# Altium schematic symbol library Resistor_0603.SchLib: 235 symbols (part 2 of 4)
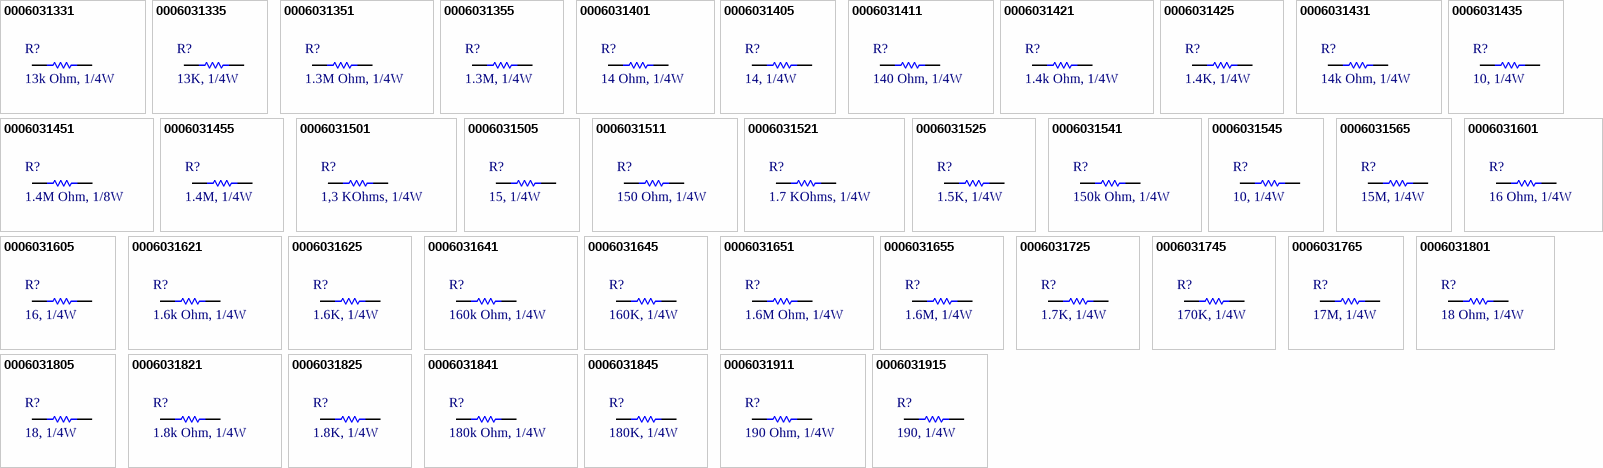
[diagram p6: symbols 0006031331 to 0006031915]

## 0006031641
designator R?, comment 160k Ohm, 1/4W
RES, 160k Ohm, size 0603, 1%; Manufacture  Name: OEM; Resistance Tolerant: +/-1%; Supply 1 Name: Mouser; Supply 1 SN: 667-ERJ-UP3F1603V; Supply 2 Name: Digi-Key; Supply 2 SN: 10-ERJ-UP3F1603VTR-ND 10-ERJ-UP3F1603VCT-ND 10-ERJ-UP3F1603VDKR-ND; Supply 3 Name: Thegioiic; Resistance: 160k; Size: 0603; Rated Power: 1/4W; Mounting Technology: SMT; Supply 1 URL: https://www.mouser.vn/ProductDetail/Panasonic/ERJ-UP3F1603V?qs=sGAEpiMZZMvdGkrng054twq3eZrCFN89v2LbROEWqwWohPOVA0N52A%3D%3D; Supply 2 URL: N/A; Supply 3 SN: N/A; Supply 3 URL: N/A; Datasheet: https://api.pim.na.industrial.panasonic.com/file_stream/main/fileversion/4484; Manufacture  SN: OEM
footprint resistor_0603
pins: 1, 2

## 0006031645
designator R?, comment 160K, 1/4W
RES, 160K Ohm, size 0603, 5%; Manufacture  Name: Panasonic; Manufacture  SN: ERJ-PA3J164V; Supply 1 Name: Mouser; Supply 1 SN: 667-ERJ-PA3J164V; Supply 2 Name: Digi-Key; Supply 2 SN: P160KBZTR-ND - Tape & Reel (TR); Supply 3 Name: Thegioiic; Resistance Tolerant: +/-5%; Size: 0603; Mounting Technology: SMT; Rated Power: 1/4 W; Datasheet: https://www.mouser.vn/datasheet/2/315/Panasonic_Resistors_Thick_Film_Anti_Sulf_Anti_Surg-1825099.pdf; Resistance: 160K; Supply 1 URL: https://www.mouser.vn/ProductDetail/Panasonic/ERJ-PA3J164V?qs=BzJM0faLVqVAGHfBHFIBng%3D%3D; Supply 2 URL: https://www.digikey.com/en/products/detail/panasonic-electronic-components/ERJ-PA3J164V/5035998?s=N4IgTCBcDaIGxwOwFoCiAlAUsgCgQQGZMBGOAFgDUQBdAXyA; Supply 3 SN: N/A; Supply 3 URL: N/A
footprint resistor_0603
pins: 1, 2

## 0006031651
designator R?, comment 1.6M Ohm, 1/4W
RES, 1.6M Ohm, size 0603, 1%; Manufacture  Name: OEM; Resistance Tolerant: +/-1%; Supply 1 Name: Mouser; Supply 1 SN: 755-ESR03EZPF1604; Supply 2 Name: Digi-Key; Supply 2 SN: ESR03EZPF1604-ND; Supply 3 Name: Thegioiic; Resistance: 1.6M; Size: 0603; Rated Power: 1/4W; Mounting Technology: SMT; Supply 1 URL: https://www.mouser.vn/ProductDetail/ROHM-Semiconductor/ESR03EZPF1604?qs=sGAEpiMZZMvdGkrng054tywGjayRHxH2xp2ZonbCXxj0kHKYgwujog%3D%3D; Supply 2 URL: https://www.digikey.com/en/products/detail/rohm-semiconductor/ESR03EZPF1604/4007171?s=N4IgjCBcoExaBjKAzAhgGwM4FMA0IB7KAbXADYBWAFgGYQBdfABwBcoQBlFgJwEsA7AOYgAvvjrQQSSGix5CJcGBoRGIVuy58ho-GBgBOCJOmyc%2BIpFI0DMKhQbM2kTjwHCxIGAAYAHA5MUDHMFK3AAOjIAAgBZAHkACwBbTEd1ZxAAVX5eFjjkGOxUTABXbmxRTzgw8sxeTBYCbgYRIA; Supply 3 SN: N/A; Supply 3 URL: N/A; Datasheet: https://fscdn.rohm.com/en/products/databook/datasheet/passive/resistor/chip_resistor/esr-e.pdf; Manufacture  SN: OEM
footprint resistor_0603
pins: 1, 2

## 0006031655
designator R?, comment 1.6M, 1/4W
RES, 1.6M Ohm, size 0603, 5%; Manufacture  Name: Panasonic; Manufacture  SN: ESR03EZPJ165; Supply 1 Name: Mouser; Supply 1 SN: 755-ESR03EZPJ165; Supply 2 Name: Digi-Key; Supply 2 SN: RHM1.6MDTR-ND - Tape & Reel (TR); Supply 3 Name: Thegioiic; Resistance Tolerant: +/-5%; Size: 0603; Mounting Technology: SMT; Rated Power: 1/4 W; Datasheet: https://www.mouser.vn/datasheet/2/348/ROHM_S_A0011075102_1-2563252.pdf; Resistance: 1.6M; Supply 1 URL: https://www.mouser.vn/ProductDetail/ROHM-Semiconductor/ESR03EZPJ165?qs=493kPxzlxfJE2ulu9ea6EQ%3D%3D; Supply 2 URL: https://www.digikey.com/en/products/detail/rohm-semiconductor/ESR03EZPJ165/4051202?s=N4IgTCBcDaIOwFYEFoCiBlASgBgMyoC0AFAKQEYA2BEAXQF8g; Supply 3 SN: N/A; Supply 3 URL: N/A
footprint resistor_0603
pins: 1, 2

## 0006031725
designator R?, comment 1.7K, 1/4W
RES, 1.7K Ohm, size 0603, 5%; Manufacture  Name: OEM; Supply 1 Name: Mouser; Supply 2 Name: Digi-Key; Supply 3 Name: Thegioiic; Resistance Tolerant: +/-5%; Size: 0603; Mounting Technology: SMT; Rated Power: 1/4 W; Datasheet: N/A; Resistance: 1.7K; Supply 1 SN: N/A; Supply 1 URL: N/A; Supply 2 SN: N/A; Supply 2 URL: N/A; Supply 3 SN: N/A; Supply 3 URL: N/A; Manufacture  SN: OEM
footprint resistor_0603
pins: 1, 2

## 0006031745
designator R?, comment 170K, 1/4W
RES, 170K Ohm, size 0603, 5%; Manufacture  Name: OEM; Supply 1 Name: Mouser; Supply 2 Name: Digi-Key; Supply 3 Name: Thegioiic; Resistance Tolerant: +/-5%; Size: 0603; Mounting Technology: SMT; Rated Power: 1/4 W; Datasheet: N/A; Resistance: 170K; Supply 1 SN: N/A; Supply 1 URL: N/A; Supply 2 SN: N/A; Supply 2 URL: N/A; Supply 3 SN: N/A; Supply 3 URL: N/A; Manufacture  SN: OEM
footprint resistor_0603
pins: 1, 2

## 0006031765
designator R?, comment 17M, 1/4W
RES, 17M Ohm, size 0603, 5%; Manufacture  Name: OEM; Supply 1 Name: Mouser; Supply 2 Name: Digi-Key; Supply 3 Name: Thegioiic; Resistance Tolerant: +/-5%; Size: 0603; Mounting Technology: SMT; Rated Power: 1/4 W; Datasheet: N/A; Resistance: 17M; Supply 1 SN: N/A; Supply 1 URL: N/A; Supply 2 SN: N/A; Supply 2 URL: N/A; Supply 3 SN: N/A; Supply 3 URL: N/A; Manufacture  SN: OEM
footprint resistor_0603
pins: 1, 2

## 0006031801
designator R?, comment 18 Ohm, 1/4W
RES, 18 Ohm, size 0603, 1%; Manufacture  Name: OEM; Resistance: 18; Resistance Tolerant: +/-1%; Supply 1 Name: Mouser; Supply 1 SN: 667-ERJ-UP3F18R0V; Supply 2 Name: Digi-Key; Supply 2 SN: 10-ERJ-UP3F18R0VTR-ND 10-ERJ-UP3F18R0VCT-ND 10-ERJ-UP3F18R0VDKR-ND; Supply 3 Name: Thegioiic; Size: 0603; Rated Power: 1/4W; Mounting Technology: SMT; Supply 1 URL: https://www.mouser.vn/ProductDetail/Panasonic/ERJ-UP3F18R0V?qs=sGAEpiMZZMvdGkrng054twq3eZrCFN89n5s8jvdP%252BJXPaFNsA5Qf3A%3D%3D; Supply 2 URL: N/A; Supply 3 SN: N/A; Supply 3 URL: N/A; Datasheet: https://api.pim.na.industrial.panasonic.com/file_stream/main/fileversion/4484; Manufacture  SN: OEM
footprint resistor_0603
pins: 1, 2

## 0006031805
designator R?, comment 18, 1/4W
RES, 18 Ohm, size 0603, 5%; Manufacture  Name: Panasonic; Manufacture  SN: ERJ-PA3J180V; Resistance: 18; Supply 1 Name: Mouser; Supply 1 SN: 667-ERJ-PA3J180V; Supply 2 Name: Digi-Key; Supply 2 SN: P18.00BZTR-ND - Tape & Reel (TR); Supply 3 Name: Thegioiic; Resistance Tolerant: +/-5%; Size: 0603; Mounting Technology: SMT; Rated Power: 1/4 W; Datasheet: https://www.mouser.vn/datasheet/2/315/AOA0000C331-1141874.pdf; Supply 1 URL: https://www.mouser.vn/ProductDetail/Panasonic/ERJ-PA3J180V?qs=BzJM0faLVqWoePtbyfIonA%3D%3D; Supply 2 URL: https://www.digikey.com/en/products/detail/panasonic-electronic-components/ERJ-PA3J180V/5035999?s=N4IgTCBcDaIGxwOwFoCiAlAUsgCgQQGZMBGADgAYA1EAXQF8g; Supply 3 SN: N/A; Supply 3 URL: https://www.thegioiic.com/dien-tro-18-ohm-0603-5-
footprint resistor_0603
pins: 1, 2

## 0006031821
designator R?, comment 1.8k Ohm, 1/4W
RES, 1.8k Ohm, size 0603, 1%; Manufacture  Name: OEM; Resistance Tolerant: +/-1%; Supply 1 Name: Mouser; Supply 1 SN: 667-ERJ-UP3F1801V; Supply 2 Name: Digi-Key; Supply 2 SN: 10-ERJ-UP3F1801VTR-ND 10-ERJ-UP3F1801VCT-ND 10-ERJ-UP3F1801VDKR-ND; Supply 3 Name: Thegioiic; Resistance: 1.8k; Size: 0603; Rated Power: 1/4W; Mounting Technology: SMT; Supply 1 URL: https://www.mouser.vn/ProductDetail/Panasonic/ERJ-UP3F1801V?qs=sGAEpiMZZMvdGkrng054twq3eZrCFN89ywFV2wwBBiTTQ%252B52RjE6XA%3D%3D; Supply 2 URL: N/A; Supply 3 SN: N/A; Supply 3 URL: N/A; Datasheet: https://api.pim.na.industrial.panasonic.com/file_stream/main/fileversion/4484; Manufacture  SN: OEM
footprint resistor_0603
pins: 1, 2

## 0006031825
designator R?, comment 1.8K, 1/4W
RES, 1.8K Ohm, size 0603, 5%; Manufacture  Name: Panasonic; Manufacture  SN: ERJ-UP3J182V; Supply 1 Name: Mouser; Supply 1 SN: 667-ERJ-UP3J182V; Supply 2 Name: Digi-Key; Supply 2 SN: 10-ERJ-UP3J182VTR-ND - Tape & Reel (TR); Supply 3 Name: Thegioiic; Resistance Tolerant: +/-5%; Size: 0603; Mounting Technology: SMT; Rated Power: 1/4 W; Datasheet: https://www.mouser.vn/datasheet/2/315/Panasonic_Resistors_Thick_Film_Anti_Sulf_Anti_Surg-1825099.pdf; Resistance: 1.8K; Supply 1 URL: https://www.mouser.vn/ProductDetail/Panasonic/ERJ-UP3J182V?qs=GedFDFLaBXEdz0KjUYQ0%2FQ%3D%3D; Supply 2 URL: https://www.digikey.com/en/products/detail/panasonic-electronic-components/ERJ-UP3J182V/12092931?s=N4IgTCBcDaIGxwOwFoCiAlAUsgqgBQGZMBGADjADUQBdAXyA; Supply 3 SN: N/A; Supply 3 URL: https://www.thegioiic.com/product/dien-tro-dan-smd?prid=291,6628,4682
footprint resistor_0603
pins: 1, 2

## 0006031841
designator R?, comment 180k Ohm, 1/4W
RES, 180k Ohm, size 0603, 1%; Manufacture  Name: OEM; Resistance Tolerant: +/-1%; Supply 1 Name: Mouser; Supply 1 SN: 667-ERJ-UP3F1803V; Supply 2 Name: Digi-Key; Supply 2 SN: 10-ERJ-UP3F1803VTR-ND 10-ERJ-UP3F1803VCT-ND 10-ERJ-UP3F1803VDKR-ND; Supply 3 Name: Thegioiic; Resistance: 180k; Size: 0603; Rated Power: 1/4W; Mounting Technology: SMT; Supply 1 URL: https://www.mouser.vn/ProductDetail/Panasonic/ERJ-UP3F1803V?qs=sGAEpiMZZMvdGkrng054twq3eZrCFN8918LomXN2pgejfcQal9aCUw%3D%3D; Supply 2 URL: N/A; Supply 3 SN: N/A; Supply 3 URL: N/A; Datasheet: https://api.pim.na.industrial.panasonic.com/file_stream/main/fileversion/4484; Manufacture  SN: OEM
footprint resistor_0603
pins: 1, 2

## 0006031845
designator R?, comment 180K, 1/4W
RES, 180K Ohm, size 0603, 5%; Manufacture  Name: Panasonic; Manufacture  SN: ERJ-PA3J184V; Supply 1 Name: Mouser; Supply 1 SN: 667-ERJ-PA3J184V; Supply 2 Name: Digi-Key; Supply 2 SN: P180KBZTR-ND - Tape & Reel (TR); Supply 3 Name: Thegioiic; Resistance Tolerant: +/-5%; Size: 0603; Mounting Technology: SMT; Rated Power: 1/4 W; Datasheet: https://www.mouser.vn/datasheet/2/315/AOA0000C331-1141874.pdf; Resistance: 180K; Supply 1 URL: https://www.mouser.vn/ProductDetail/Panasonic/ERJ-PA3J184V?qs=BzJM0faLVqV02%252BkMYM0K6A%3D%3D; Supply 2 URL: https://www.digikey.com/en/products/detail/panasonic-electronic-components/ERJ-PA3J184V/5036003?s=N4IgTCBcDaIGxwOwFoCiAlAUsgCgQQGZMBGADgBYA1EAXQF8g; Supply 3 SN: N/A; Supply 3 URL: https://www.thegioiic.com/dien-tro-180-kohm-0603-5
footprint resistor_0603
pins: 1, 2

## 0006031911
designator R?, comment 190 Ohm, 1/4W
RES, 190 Ohm, size 0603, 1%; Manufacture  Name: OEM; Resistance: 190; Resistance Tolerant: +/-1%; Supply 1 Name: Mouser; Supply 1 SN: 667-ERJ-PA3F1910V; Supply 2 Name: Digi-Key; Supply 2 SN: 10-ERJ-UP3F1910VTR-ND; Supply 3 Name: Thegioiic; Size: 0603; Rated Power: 1/4W; Mounting Technology: SMT; Supply 1 URL: https://www.mouser.vn/ProductDetail/Panasonic/ERJ-PA3F1910V?qs=sGAEpiMZZMvdGkrng054t6%2FAfIpq60YD3kw99gNbcjtA%252BMXGoWBkmw%3D%3D; Supply 2 URL: N/A; Supply 3 SN: N/A; Supply 3 URL: N/A; Datasheet: https://api.pim.na.industrial.panasonic.com/file_stream/main/fileversion/4484; Manufacture  SN: OEM
footprint resistor_0603
pins: 1, 2

## 0006031915
designator R?, comment 190, 1/4W
RES, 190 Ohm, size 0603, 5%; Manufacture  Name: OEM; Resistance: 190; Supply 1 Name: Mouser; Supply 2 Name: Digi-Key; Supply 3 Name: Thegioiic; Resistance Tolerant: +/-5%; Size: 0603; Mounting Technology: SMT; Rated Power: 1/4 W; Datasheet: N/A; Supply 1 SN: N/A; Supply 1 URL: N/A; Supply 2 SN: N/A; Supply 2 URL: N/A; Supply 3 SN: N/A; Supply 3 URL: N/A; Manufacture  SN: OEM
footprint resistor_0603
pins: 1, 2

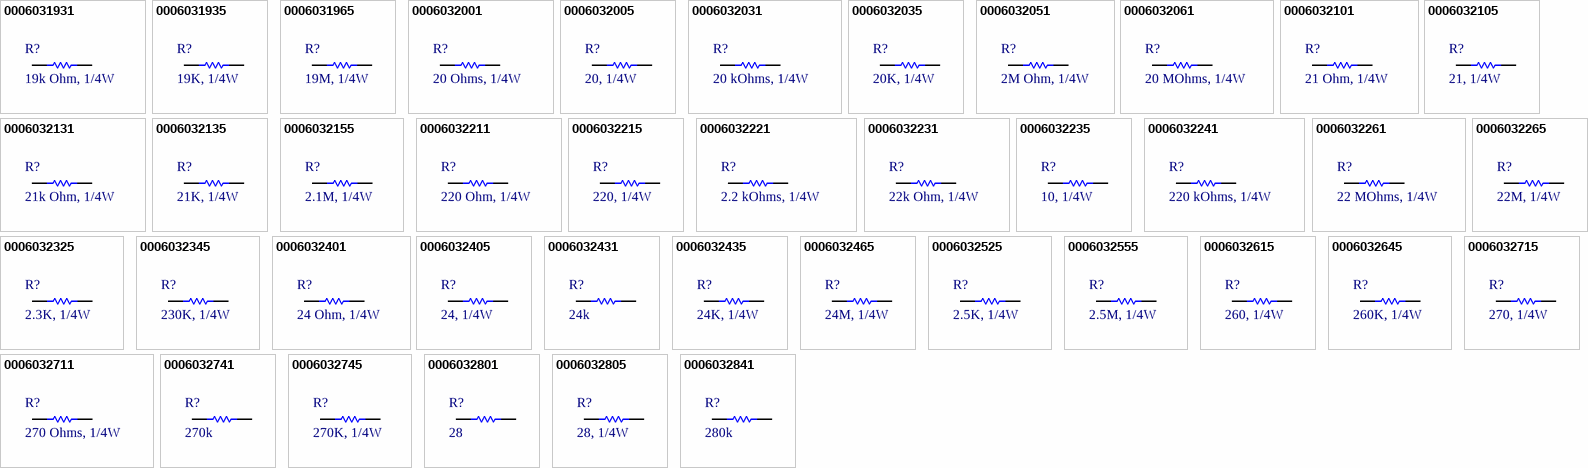
[diagram p2: symbols 0006031931 to 0006032841]

## 0006031931
designator R?, comment 19k Ohm, 1/4W
RES, 19k Ohm, size 0603, 1%; Manufacture  Name: OEM; Resistance Tolerant: +/-1%; Supply 1 Name: Mouser; Supply 1 SN: 667-ERJ-UP3F1912V; Supply 2 Name: Digi-Key; Supply 2 SN: 10-ERJ-UP3F1912VTR-ND; Supply 3 Name: Thegioiic; Resistance: 19k; Size: 0603; Rated Power: 1/4W; Mounting Technology: SMT; Supply 1 URL: https://www.mouser.vn/ProductDetail/Panasonic/ERJ-UP3F1912V?qs=sGAEpiMZZMvdGkrng054twq3eZrCFN89AUiNRqLxQmQ6r3V00BiSfA%3D%3D; Supply 2 URL: N/A; Supply 3 SN: N/A; Supply 3 URL: N/A; Datasheet: https://api.pim.na.industrial.panasonic.com/file_stream/main/fileversion/4484; Manufacture  SN: OEM
footprint resistor_0603
pins: 1, 2

## 0006031935
designator R?, comment 19K, 1/4W
RES, 19K Ohm, size 0603, 5%; Manufacture  Name: OEM; Supply 1 Name: Mouser; Supply 2 Name: Digi-Key; Supply 3 Name: Thegioiic; Resistance Tolerant: +/-5%; Size: 0603; Mounting Technology: SMT; Rated Power: 1/4 W; Datasheet: N/A; Resistance: 19K; Supply 1 SN: N/A; Supply 1 URL: N/A; Supply 2 SN: N/A; Supply 2 URL: N/A; Supply 3 SN: N/A; Supply 3 URL: N/A; Manufacture  SN: OEM
footprint resistor_0603
pins: 1, 2

## 0006031965
designator R?, comment 19M, 1/4W
RES, 19M Ohm, size 0603, 5%; Manufacture  Name: OEM; Supply 1 Name: Mouser; Supply 2 Name: Digi-Key; Supply 3 Name: Thegioiic; Resistance Tolerant: +/-5%; Size: 0603; Mounting Technology: SMT; Rated Power: 1/4 W; Datasheet: N/A; Resistance: 19M; Supply 1 SN: N/A; Supply 1 URL: N/A; Supply 2 SN: N/A; Supply 2 URL: N/A; Supply 3 SN: N/A; Supply 3 URL: N/A; Manufacture  SN: OEM
footprint resistor_0603
pins: 1, 2

## 0006032001
designator R?, comment 20 Ohms, 1/4W
RES, 20 Ohms, size 0603, 1%; Manufacture  Name: OEM; Resistance: 20; Supply 1 Name: Mouser; Supply 1 SN: 667-ERJ-H3EF20R0V; Supply 2 Name: Digi-Key; Supply 2 SN: 13-RC0603FR-1020RLTR-ND; Supply 3 Name: Thegioiic; Resistance Tolerant: +/-1%; Size: 0603; Mounting Technology: SMT; Rated Power: 1/4 W; Datasheet: N/A; Supply 1 URL: https://www.mouser.vn/ProductDetail/Panasonic/ERJ-H3EF20R0V?qs=eP2BKZSCXI5MeliV8G5lXA%3D%3D; Supply 2 URL: https://www.digikey.com/en/products/detail/yageo/RC0603FR-1020RL/14008331; Supply 3 SN: N/A; Supply 3 URL: N/A; Manufacture  SN: OEM
footprint resistor_0603
pins: 1, 2

## 0006032005
designator R?, comment 20, 1/4W
RES, 20 Ohm, size 0603, 5%; Manufacture  Name: Panasonic; Manufacture  SN: ERJ-UP3J200V; Resistance: 20; Supply 1 Name: Mouser; Supply 1 SN: 667-ERJ-UP3J200V; Supply 2 Name: Digi-Key; Supply 2 SN: 10-ERJ-UP3J200VTR-ND - Tape & Reel (TR); Supply 3 Name: Thegioiic; Resistance Tolerant: +/-5%; Size: 0603; Mounting Technology: SMT; Rated Power: 1/4 W; Datasheet: https://www.mouser.vn/datasheet/2/315/Panasonic_Resistors_Thick_Film_Anti_Sulf_Anti_Surg-1825099.pdf; Supply 1 URL: https://www.mouser.vn/ProductDetail/Panasonic/ERJ-UP3J200V?qs=GedFDFLaBXGLdxLyckTP9w%3D%3D; Supply 2 URL: https://www.digikey.com/en/products/detail/panasonic-electronic-components/ERJ-UP3J200V/12091992?s=N4IgTCBcDaIGxwOwFoCiAlAUsgqgBQGZMwAGEgNRAF0BfIA; Supply 3 SN: N/A; Supply 3 URL: https://www.thegioiic.com/dien-tro-20-ohm-0603-5-
footprint resistor_0603
pins: 1, 2

## 0006032031
designator R?, comment 20 kOhms, 1/4W
RES, 20 kOhms, size 0603, 1%; Manufacture  Name: OEM; Resistance: 20 k; Supply 1 Name: Mouser; Supply 1 SN: 667-ERJ-S03F2002V; Supply 2 Name: Digi-Key; Supply 2 SN: 13-RC0603FR-1320KLTR-ND; Supply 3 Name: Thegioiic; Resistance Tolerant: +/-1%; Size: 0603; Mounting Technology: SMT; Rated Power: 1/4 W; Datasheet: N/A; Supply 1 URL: https://www.mouser.vn/ProductDetail/Panasonic/ERJ-S03F2002V?qs=Zyl8A9hlmJopfTdqNIDujw%3D%3D; Supply 2 URL: https://www.digikey.com/en/products/detail/yageo/RC0603FR-1320KL/13694225; Supply 3 SN: N/A; Supply 3 URL: N/A; Manufacture  SN: OEM
footprint resistor_0603
pins: 1, 2

## 0006032035
designator R?, comment 20K, 1/4W
RES, 20K Ohm, size 0603, 5%; Manufacture  Name: Panasonic; Manufacture  SN: ERJ-UP3J203V; Supply 1 Name: Mouser; Supply 1 SN: 667-ERJ-UP3J203V; Supply 2 Name: Digi-Key; Supply 2 SN: 10-ERJ-UP3J203VTR-ND - Tape & Reel (TR); Supply 3 Name: Thegioiic; Resistance Tolerant: +/-5%; Size: 0603; Mounting Technology: SMT; Rated Power: 1/4 W; Datasheet: https://www.mouser.vn/datasheet/2/315/Panasonic_Resistors_Thick_Film_Anti_Sulf_Anti_Surg-1825099.pdf; Resistance: 20K; Supply 1 URL: https://www.mouser.vn/datasheet/2/315/Panasonic_Resistors_Thick_Film_Anti_Sulf_Anti_Surg-1825099.pdf; Supply 2 URL: https://www.digikey.com/en/products/detail/panasonic-electronic-components/ERJ-UP3J203V/12092736?s=N4IgTCBcDaIGxwOwFoCiAlAUsgqgBQGZMwAGAgNRAF0BfIA; Supply 3 SN: N/A; Supply 3 URL: https://www.thegioiic.com/dien-tro-20-kohm-0603-5
footprint resistor_0603
pins: 1, 2

## 0006032051
designator R?, comment 2M Ohm, 1/4W
RES, 2M Ohm, size 0603, 1%; Manufacture  Name: OEM; Resistance Tolerant: +/-1%; Supply 1 Name: Mouser; Supply 1 SN: 755-ESR03EZPF2004; Supply 2 Name: Digi-Key; Supply 2 SN: ESR03EZPF2004-ND; Supply 3 Name: Thegioiic; Resistance: 2M; Size: 0603; Rated Power: 1/4W; Mounting Technology: SMT; Supply 1 URL: https://www.mouser.vn/ProductDetail/ROHM-Semiconductor/ESR03EZPF2004?qs=sGAEpiMZZMvdGkrng054tywGjayRHxH23j2TsgFSxOEDe5WiE82RwA%3D%3D; Supply 2 URL: https://www.digikey.com/en/products/detail/rohm-semiconductor/ESR03EZPF2004/4007188; Supply 3 SN: N/A; Supply 3 URL: N/A; Datasheet: https://fscdn.rohm.com/en/products/databook/datasheet/passive/resistor/chip_resistor/esr-e.pdf; Manufacture  SN: OEM
footprint resistor_0603
pins: 1, 2

## 0006032061
designator R?, comment 20 MOhms, 1/4W
RES, 20 MOhms, size 0603, 1%; Manufacture  Name: OEM; Resistance: 20 M; Supply 1 Name: Mouser; Supply 1 SN: 708-HVCB0603FDD20M0; Supply 2 Name: Digi-Key; Supply 2 SN: HVCB0603FDD20M0TR-ND; Supply 3 Name: Thegioiic; Resistance Tolerant: +/-1%; Size: 0603; Mounting Technology: SMT; Rated Power: 1/4 W; Datasheet: N/A; Supply 1 URL: https://www.mouser.vn/ProductDetail/SEI-Stackpole/HVCB0603FDD20M0?qs=IPgv5n7u5QYFeGHIm8yl9w%3D%3D; Supply 2 URL: https://www.digikey.com/en/products/detail/stackpole-electronics-inc/HVCB0603FDD20M0/2619760; Supply 3 SN: N/A; Supply 3 URL: N/A; Manufacture  SN: OEM
footprint resistor_0603
pins: 1, 2

## 0006032101
designator R?, comment 21 Ohm, 1/4W
RES, 21 Ohm, size 0603, 1%; Manufacture  Name: OEM; Resistance: 21; Resistance Tolerant: +/-1%; Supply 1 Name: Mouser; Supply 1 SN: 667-ERJ-PA3F21R0V; Supply 2 Name: Digi-Key; Supply 2 SN: 10-ERJ-UP3F21R0VTR-ND; Supply 3 Name: Thegioiic; Size: 0603; Rated Power: 1/4W; Mounting Technology: SMT; Supply 1 URL: https://www.mouser.vn/ProductDetail/Panasonic/ERJ-PA3F21R0V?qs=sGAEpiMZZMvdGkrng054t6%2FAfIpq60YDOmaClsnhbxpPQ4JgYKvdww%3D%3D; Supply 2 URL: https://www.digikey.com/en/products/detail/panasonic-electronic-components/ERJ-UP3F21R0V/12092048; Supply 3 SN: N/A; Supply 3 URL: N/A; Datasheet: https://api.pim.na.industrial.panasonic.com/file_stream/main/fileversion/4484; Manufacture  SN: OEM
footprint resistor_0603
pins: 1, 2

## 0006032105
designator R?, comment 21, 1/4W
RES, 21 Ohm, size 0603, 5%; Manufacture  Name: OEM; Resistance: 21; Supply 1 Name: Mouser; Supply 2 Name: Digi-Key; Supply 3 Name: Thegioiic; Resistance Tolerant: +/-5%; Size: 0603; Mounting Technology: SMT; Rated Power: 1/4 W; Datasheet: N/A; Supply 1 SN: N/A; Supply 1 URL: N/A; Supply 2 SN: N/A; Supply 2 URL: N/A; Supply 3 SN: N/A; Supply 3 URL: N/A; Manufacture  SN: OEM
footprint resistor_0603
pins: 1, 2

## 0006032131
designator R?, comment 21k Ohm, 1/4W
RES, 21k Ohm, size 0603, 1%; Manufacture  Name: OEM; Resistance Tolerant: +/-1%; Supply 1 Name: Mouser; Supply 1 SN: 667-ERJ-UP3F2102V; Supply 2 Name: Digi-Key; Supply 2 SN: 10-ERJ-UP3F2102VTR-ND; Supply 3 Name: Thegioiic; Resistance: 21k; Size: 0603; Rated Power: 1/4W; Mounting Technology: SMT; Supply 1 URL: https://www.mouser.vn/ProductDetail/Panasonic/ERJ-UP3F2102V?qs=sGAEpiMZZMvdGkrng054twq3eZrCFN89vdo%2FNiB%2Fpd%252BxWH%252BNfzegGw%3D%3D; Supply 2 URL: https://www.digikey.com/en/products/detail/panasonic-electronic-components/ERJ-UP3F2102V/12092179; Supply 3 SN: N/A; Supply 3 URL: N/A; Datasheet: https://api.pim.na.industrial.panasonic.com/file_stream/main/fileversion/4484; Manufacture  SN: OEM
footprint resistor_0603
pins: 1, 2

## 0006032135
designator R?, comment 21K, 1/4W
RES, 21K Ohm, size 0603, 5%; Manufacture  Name: OEM; Supply 1 Name: Mouser; Supply 2 Name: Digi-Key; Supply 3 Name: Thegioiic; Resistance Tolerant: +/-5%; Size: 0603; Mounting Technology: SMT; Rated Power: 1/4 W; Datasheet: N/A; Resistance: 21K; Supply 1 SN: N/A; Supply 1 URL: N/A; Supply 2 SN: N/A; Supply 2 URL: N/A; Supply 3 SN: N/A; Supply 3 URL: N/A; Manufacture  SN: OEM
footprint resistor_0603
pins: 1, 2

## 0006032155
designator R?, comment 2.1M, 1/4W
RES, 2.1M Ohm, size 0603, 5%; Manufacture  Name: OEM; Supply 1 Name: Mouser; Supply 2 Name: Digi-Key; Supply 3 Name: Thegioiic; Resistance Tolerant: +/-5%; Size: 0603; Mounting Technology: SMT; Rated Power: 1/4 W; Datasheet: N/A; Resistance: 2.1M; Supply 1 SN: N/A; Supply 1 URL: N/A; Supply 2 SN: N/A; Supply 2 URL: N/A; Supply 3 SN: N/A; Supply 3 URL: N/A; Manufacture  SN: OEM
footprint resistor_0603
pins: 1, 2

## 0006032211
designator R?, comment 220 Ohm, 1/4W
RES, 220 Ohm, size 0603, 1%; Manufacture  Name: OEM; Resistance: 220; Resistance Tolerant: +/-1%; Supply 1 Name: Mouser; Supply 1 SN: 667-ERJ-UP3F2200V; Supply 2 Name: Digi-Key; Supply 2 SN: 10-ERJ-UP3F2200VTR-ND 10-ERJ-UP3F2200VCT-ND 10-ERJ-UP3F2200VDKR-ND; Supply 3 Name: Thegioiic; Size: 0603; Rated Power: 1/4W; Mounting Technology: SMT; Supply 1 URL: https://www.mouser.vn/ProductDetail/Panasonic/ERJ-UP3F2200V?qs=sGAEpiMZZMvdGkrng054twq3eZrCFN89E%252BhCXuCu3h8RslmTO1I28Q%3D%3D; Supply 2 URL: https://www.digikey.com/en/products/detail/panasonic-electronic-components/ERJ-UP3F2200V/12092129; Supply 3 SN: N/A; Supply 3 URL: N/A; Datasheet: https://api.pim.na.industrial.panasonic.com/file_stream/main/fileversion/4484; Manufacture  SN: OEM
footprint resistor_0603
pins: 1, 2

## 0006032215
designator R?, comment 220, 1/4W
RES, 220 Ohm, size 0603, 5%; Manufacture  Name: Panasonic; Manufacture  SN: ERJ-UP3J221V; Resistance: 220; Supply 1 Name: Mouser; Supply 1 SN: 667-ERJ-UP3J221V; Supply 2 Name: Digi-Key; Supply 2 SN: 10-ERJ-UP3J221VTR-ND - Tape & Reel (TR); Supply 3 Name: Thegioiic; Resistance Tolerant: +/-5%; Size: 0603; Mounting Technology: SMT; Rated Power: 1/4 W; Datasheet: https://www.mouser.vn/datasheet/2/315/Panasonic_Resistors_Thick_Film_Anti_Sulf_Anti_Surg-1825099.pdf; Supply 1 URL: https://www.mouser.vn/ProductDetail/Panasonic/ERJ-UP3J221V?qs=GedFDFLaBXFBy%2FTkMi3Z8w%3D%3D; Supply 2 URL: https://www.digikey.com/en/products/detail/panasonic-electronic-components/ERJ-UP3J221V/12092892?s=N4IgTCBcDaIGxwOwFoCiAlAUsgqgBQGZMwwBGANRAF0BfIA; Supply 3 SN: N/A; Supply 3 URL: https://www.thegioiic.com/dien-tro-220-ohm-0603-5
footprint resistor_0603
pins: 1, 2

## 0006032221
designator R?, comment 2.2 kOhms, 1/4W
RES, 2.2 kOhms, size 0603, 1%; Manufacture  Name: OEM; Resistance: 2.2 k; Supply 1 Name: Mouser; Supply 1 SN: 603-SR0603FR-7T2K2L; Supply 2 Name: Digi-Key; Supply 2 SN: 13-RC0603FR-132K2LTR-ND; Supply 3 Name: Thegioiic; Resistance Tolerant: +/-1%; Size: 0603; Mounting Technology: SMT; Rated Power: 1/4 W; Datasheet: N/A; Supply 1 URL: https://www.mouser.vn/ProductDetail/YAGEO/SR0603FR-7T2K2L?qs=pfd5qewlna6SQQIuviAJZA%3D%3D; Supply 2 URL: https://www.digikey.com/en/products/detail/yageo/RC0603FR-132K2L/13694214; Supply 3 SN: N/A; Supply 3 URL: N/A; Manufacture  SN: OEM
footprint resistor_0603
pins: 1, 2

## 0006032231
designator R?, comment 22k Ohm, 1/4W
RES, 22k Ohm, size 0603, 1%; Manufacture  Name: OEM; Resistance Tolerant: +/-1%; Supply 1 Name: Mouser; Supply 1 SN: 667-ERJ-UP3F2202V; Supply 2 Name: Digi-Key; Supply 2 SN: 10-ERJ-UP3F2202VTR-ND 10-ERJ-UP3F2202VCT-ND 10-ERJ-UP3F2202VDKR-ND; Supply 3 Name: Thegioiic; Resistance: 22k; Size: 0603; Rated Power: 1/4W; Mounting Technology: SMT; Supply 1 URL: https://www.mouser.vn/ProductDetail/Panasonic/ERJ-UP3F2202V?qs=sGAEpiMZZMvdGkrng054twq3eZrCFN893x5tBCka%252B6wRswHHN2WaIQ%3D%3D; Supply 2 URL: https://www.digikey.com/en/products/detail/panasonic-electronic-components/ERJ-UP3F2202V/12092693; Supply 3 SN: N/A; Supply 3 URL: N/A; Datasheet: https://api.pim.na.industrial.panasonic.com/file_stream/main/fileversion/4484; Manufacture  SN: OEM
footprint resistor_0603
pins: 1, 2

## 0006032235
designator R?, comment 10, 1/4W
RES, 22K Ohm, size 0603, 5%; Manufacture  Name: Panasonic; Manufacture  SN: ERJ-UP3J223V; Supply 1 Name: Mouser; Supply 1 SN: 667-ERJ-UP3J223V; Supply 2 Name: Digi-Key; Supply 2 SN: 10-ERJ-UP3J223VTR-ND - Tape & Reel (TR); Supply 3 Name: Thegioiic; Resistance Tolerant: +/-5%; Size: 0603; Mounting Technology: SMT; Rated Power: 1/4 W; Datasheet: https://www.mouser.vn/datasheet/2/315/Panasonic_Resistors_Thick_Film_Anti_Sulf_Anti_Surg-1825099.pdf; Resistance: 22K; Supply 1 URL: https://www.mouser.vn/ProductDetail/Panasonic/ERJ-UP3J223V?qs=GedFDFLaBXHkpI8RZhFc4A%3D%3D; Supply 2 URL: https://www.digikey.com/en/products/detail/panasonic-electronic-components/ERJ-UP3J223V/12139300?s=N4IgTCBcDaIGxwOwFoCiAlAUsgqgBQGZMwwCA1EAXQF8g; Supply 3 SN: N/A; Supply 3 URL: https://www.thegioiic.com/dien-tro-22-kohm-0603-5
footprint resistor_0603
pins: 1, 2

## 0006032241
designator R?, comment 220 kOhms, 1/4W
RES, 220 kOhms, size 0603, 1%; Manufacture  Name: OEM; Resistance: 220 k; Supply 1 Name: Mouser; Supply 1 SN: 791-RMC1/1652-CR0603FX-2203ELF6K2303FTP; Supply 2 Name: Digi-Key; Supply 2 SN: 1292-WR06X2203FTLTR-ND; Supply 3 Name: Thegioiic; Resistance Tolerant: +/-1%; Size: 0603; Mounting Technology: SMT; Rated Power: 1/4 W; Datasheet: N/A; Supply 1 URL: .moushttps://www.mouser.vn/ProductDetail/Bourns/CR0603-FX-2203ELF?qs=zx2075yZkZLnuw1SjUoEGg%3D%3D; Supply 2 URL: https://www.digikey.com/en/products/detail/walsin-technology-corporation/WR06X2203FTL/13241300; Supply 3 SN: N/A; Supply 3 URL: N/A; Manufacture  SN: OEM
footprint resistor_0603
pins: 1, 2

## 0006032261
designator R?, comment 22 MOhms, 1/4W
RES, 22 MOhms, size 0603, 1%; Manufacture  Name: OEM; Resistance: 22 M; Supply 1 Name: Mouser; Supply 1 SN: 303-0603WAF2205T5E; Supply 2 Name: Digi-Key; Supply 2 SN: HVCB0603FKD22M0-ND; Supply 3 Name: Thegioiic; Resistance Tolerant: +/-1%; Size: 0603; Mounting Technology: SMT; Rated Power: 1/4 W; Datasheet: N/A; Supply 1 URL: https://www.mouser.vn/ProductDetail/Royalohm/0603WAF2205T5E?qs=e8oIoAS2J1QZMv3dmftmzg%3D%3D; Supply 2 URL: https://www.digikey.com/en/products/detail/stackpole-electronics-inc/HVCB0603FKD22M0/6269316; Supply 3 SN: N/A; Supply 3 URL: N/A; Manufacture  SN: OEM
footprint resistor_0603
pins: 1, 2

## 0006032265
designator R?, comment 22M, 1/4W
RES, 22M Ohm, size 0603, 5%; Manufacture  Name: OEM; Supply 1 Name: Mouser; Supply 2 Name: Digi-Key; Supply 3 Name: Thegioiic; Resistance Tolerant: +/-5%; Size: 0603; Mounting Technology: SMT; Rated Power: 1/4 W; Datasheet: N/A; Resistance: 22M; Supply 1 SN: N/A; Supply 1 URL: N/A; Supply 2 SN: N/A; Supply 2 URL: N/A; Supply 3 SN: N/A; Supply 3 URL: N/A; Manufacture  SN: OEM
footprint resistor_0603
pins: 1, 2

## 0006032325
designator R?, comment 2.3K, 1/4W
RES, 2.3K Ohm, size 0603, 5%; Manufacture  Name: OEM; Supply 1 Name: Mouser; Supply 2 Name: Digi-Key; Supply 3 Name: Thegioiic; Resistance Tolerant: +/-5%; Size: 0603; Mounting Technology: SMT; Rated Power: 1/4 W; Datasheet: N/A; Resistance: 2.3K; Supply 1 SN: N/A; Supply 1 URL: N/A; Supply 2 SN: N/A; Supply 2 URL: N/A; Supply 3 SN: N/A; Supply 3 URL: N/A; Manufacture  SN: OEM
footprint resistor_0603
pins: 1, 2

## 0006032345
designator R?, comment 230K, 1/4W
RES, 230K Ohm, size 0603, 5%; Manufacture  Name: OEM; Supply 1 Name: Mouser; Supply 2 Name: Digi-Key; Supply 3 Name: Thegioiic; Resistance Tolerant: +/-5%; Size: 0603; Mounting Technology: SMT; Rated Power: 1/4 W; Datasheet: N/A; Resistance: 230K; Supply 1 SN: N/A; Supply 1 URL: N/A; Supply 2 SN: N/A; Supply 2 URL: N/A; Supply 3 SN: N/A; Supply 3 URL: N/A; Manufacture  SN: OEM
footprint resistor_0603
pins: 1, 2

## 0006032401
designator R?, comment 24 Ohm, 1/4W
RES, 24 Ohm, size 0603, 1%; Manufacture  Name: OEM; Resistance: 24; Resistance Tolerant: +/-1%; Supply 1 Name: Mouser; Supply 1 SN: 755-ESR03EZPF24R0; Supply 2 Name: Digi-Key; Supply 2 SN: ESR03EZPF24R0-ND; Supply 3 Name: Thegioiic; Size: 0603; Rated Power: 1/4W; Mounting Technology: SMT; Supply 1 URL: https://www.mouser.vn/ProductDetail/ROHM-Semiconductor/ESR03EZPF24R0?qs=sGAEpiMZZMvdGkrng054tywGjayRHxH2im8oingTG1SvGV5YQNaBaA%3D%3D; Supply 2 URL: https://www.digikey.com/en/products/detail/rohm-semiconductor/ESR03EZPF24R0/4007202; Supply 3 SN: N/A; Supply 3 URL: N/A; Datasheet: https://fscdn.rohm.com/en/products/databook/datasheet/passive/resistor/chip_resistor/esr-e.pdf; Manufacture  SN: OEM
footprint resistor_0603
pins: 1, 2

## 0006032405
designator R?, comment 24, 1/4W
RES, 24 Ohm, size 0603, 5%; Manufacture  Name: Panasonic; Manufacture  SN: ERJ-PA3J240V; Resistance: 24; Supply 1 Name: Mouser; Supply 1 SN: 667-ERJ-PA3J240V; Supply 2 Name: Digi-Key; Supply 2 SN: P24.00BZTR-ND - Tape & Reel (TR); Supply 3 Name: Thegioiic; Resistance Tolerant: +/-5%; Size: 0603; Mounting Technology: SMT; Rated Power: 1/4 W; Datasheet: https://www.mouser.vn/datasheet/2/315/AOA0000C331-1141874.pdf; Supply 1 URL: https://www.mouser.vn/ProductDetail/Panasonic/ERJ-PA3J240V?qs=BzJM0faLVqUU%252B6Hm0WsZ0A%3D%3D; Supply 2 URL: https://www.digikey.com/en/products/detail/panasonic-electronic-components/ERJ-PA3J240V/5036021?s=N4IgTCBcDaIGxwOwFoCiAlAUsgCgQQGZMwAWABgDUQBdAXyA; Supply 3 SN: N/A; Supply 3 URL: N/A
footprint resistor_0603
pins: 1, 2

## 0006032431
designator R?, comment 24k
RES, 24k Ohm, size 0603, 1%; Manufacture  Name: OEM; Resistance Tolerant: +/-1%; Rated Power: 1/4W; Supply 1 Name: Mouser; Supply 1 SN: 667-ERJ-UP3F2402V; Supply 2 Name: Digi-Key; Supply 2 SN: 10-ERJ-UP3F2402VTR-ND 10-ERJ-UP3F2402VCT-ND 10-ERJ-UP3F2402VDKR-ND; Supply 3 Name: Thegioiic; Resistance: 24k; Size: 0603; Mounting Technology: SMT; Supply 1 URL: https://www.mouser.vn/ProductDetail/Panasonic/ERJ-UP3F2402V?qs=sGAEpiMZZMvdGkrng054twq3eZrCFN89Fbs5AlXLmHZ21ADlxtC0%252BQ%3D%3D; Supply 2 URL: https://www.digikey.com/en/products/detail/panasonic-electronic-components/ERJ-UP3F2402V/12139426; Supply 3 SN: N/A; Supply 3 URL: N/A; Datasheet: https://api.pim.na.industrial.panasonic.com/file_stream/main/fileversion/4484; Manufacture  SN: OEM
footprint resistor_0603
pins: 1, 2

## 0006032435
designator R?, comment 24K, 1/4W
RES, 24K Ohm, size 0603, 5%; Manufacture  Name: Panasonic; Manufacture  SN: ERJ-PA3J243V; Supply 1 Name: Mouser; Supply 1 SN: 667-ERJ-PA3J243V; Supply 2 Name: Digi-Key; Supply 2 SN: P24KBZTR-ND - Tape & Reel (TR); Supply 3 Name: Thegioiic; Resistance Tolerant: +/-5%; Size: 0603; Mounting Technology: SMT; Rated Power: 1/4 W; Datasheet: https://www.mouser.vn/datasheet/2/315/AOA0000C331-1141874.pdf; Resistance: 24K; Supply 1 URL: https://www.mouser.vn/ProductDetail/Panasonic/ERJ-PA3J243V?qs=BzJM0faLVqVn1fFhvsLUqw%3D%3D; Supply 2 URL: https://www.digikey.com/en/products/detail/panasonic-electronic-components/ERJ-PA3J243V/5036024?s=N4IgTCBcDaIGxwOwFoCiAlAUsgCgQQGZMwAWAgNRAF0BfIA; Supply 3 SN: N/A; Supply 3 URL: https://www.thegioiic.com/dien-tro-24-kohm-0603-5
footprint resistor_0603
pins: 1, 2

## 0006032465
designator R?, comment 24M, 1/4W
RES, 24M Ohm, size 0603, 5%; Manufacture  Name: OEM; Supply 1 Name: Mouser; Supply 2 Name: Digi-Key; Supply 3 Name: Thegioiic; Resistance Tolerant: +/-5%; Size: 0603; Mounting Technology: SMT; Rated Power: 1/4 W; Datasheet: N/A; Resistance: 24M; Supply 1 SN: N/A; Supply 1 URL: N/A; Supply 2 SN: N/A; Supply 2 URL: N/A; Supply 3 SN: N/A; Supply 3 URL: N/A; Manufacture  SN: OEM
footprint resistor_0603
pins: 1, 2

## 0006032525
designator R?, comment 2.5K, 1/4W
RES, 2.5K Ohm, size 0603, 5%; Manufacture  Name: OEM; Supply 1 Name: Mouser; Supply 2 Name: Digi-Key; Supply 3 Name: Thegioiic; Resistance Tolerant: +/-5%; Size: 0603; Mounting Technology: SMT; Rated Power: 1/4 W; Datasheet: N/A; Resistance: 2.5K; Supply 1 SN: N/A; Supply 1 URL: N/A; Supply 2 SN: N/A; Supply 2 URL: N/A; Supply 3 SN: N/A; Supply 3 URL: N/A; Manufacture  SN: OEM
footprint resistor_0603
pins: 1, 2

## 0006032555
designator R?, comment 2.5M, 1/4W
RES, 2.5M Ohm, size 0603, 5%; Manufacture  Name: OEM; Supply 1 Name: Mouser; Supply 2 Name: Digi-Key; Supply 3 Name: Thegioiic; Resistance Tolerant: +/-5%; Size: 0603; Mounting Technology: SMT; Rated Power: 1/4 W; Datasheet: N/A; Resistance: 2.5M; Supply 1 SN: N/A; Supply 1 URL: N/A; Supply 2 SN: N/A; Supply 2 URL: N/A; Supply 3 SN: N/A; Supply 3 URL: N/A; Manufacture  SN: OEM
footprint resistor_0603
pins: 1, 2

## 0006032615
designator R?, comment 260, 1/4W
RES, 260 Ohm, size 0603, 5%; Manufacture  Name: OEM; Resistance: 260; Supply 1 Name: Mouser; Supply 2 Name: Digi-Key; Supply 3 Name: Thegioiic; Resistance Tolerant: +/-5%; Size: 0603; Mounting Technology: SMT; Rated Power: 1/4 W; Datasheet: N/A; Supply 1 SN: N/A; Supply 1 URL: N/A; Supply 2 SN: N/A; Supply 2 URL: N/A; Supply 3 SN: N/A; Supply 3 URL: N/A; Manufacture  SN: OEM
footprint resistor_0603
pins: 1, 2

## 0006032645
designator R?, comment 260K, 1/4W
RES, 260K Ohm, size 0603, 5%; Manufacture  Name: OEM; Supply 1 Name: Mouser; Supply 2 Name: Digi-Key; Supply 3 Name: Thegioiic; Resistance Tolerant: +/-5%; Size: 0603; Mounting Technology: SMT; Rated Power: 1/4 W; Datasheet: N/A; Resistance: 260K; Supply 1 SN: N/A; Supply 1 URL: N/A; Supply 2 SN: N/A; Supply 2 URL: N/A; Supply 3 SN: N/A; Supply 3 URL: N/A; Manufacture  SN: OEM
footprint resistor_0603
pins: 1, 2

## 0006032711
designator R?, comment 270 Ohms, 1/4W
RES, 270 Ohms, size 0603, 1%; Manufacture  Name: OEM; Resistance: 270; Supply 1 Name: Mouser; Supply 1 SN: 755-SFR03EZPF2700; Supply 2 Name: Digi-Key; Supply 2 SN: 13-RC0603FR-13270RLTR-ND; Supply 3 Name: Thegioiic; Resistance Tolerant: +/-1%; Size: 0603; Mounting Technology: SMT; Rated Power: 1/4 W; Datasheet: N/A; Supply 1 URL: https://www.mouser.vn/ProductDetail/ROHM-Semiconductor/SFR03EZPF2700?qs=MyNHzdoqoQLTAjmn%2FiOVwA%3D%3D; Supply 2 URL: https://www.digikey.com/en/products/detail/yageo/RC0603FR-13270RL/14286751; Supply 3 SN: N/A; Supply 3 URL: N/A; Manufacture  SN: OEM
footprint resistor_0603
pins: 1, 2

## 0006032715
designator R?, comment 270, 1/4W
RES, 270 Ohm, size 0603, 5%; Manufacture  Name: Panasonic; Manufacture  SN: ERJ-UP3J271V; Resistance: 270; Supply 1 Name: Mouser; Supply 1 SN: 667-ERJ-UP3J271V; Supply 2 Name: Digi-Key; Supply 3 Name: Thegioiic; Resistance Tolerant: +/-5%; Size: 0603; Mounting Technology: SMT; Rated Power: 1/4 W; Datasheet: https://www.mouser.vn/datasheet/2/315/Panasonic_Resistors_Thick_Film_Anti_Sulf_Anti_Surg-1825099.pdf; Supply 1 URL: https://www.mouser.vn/ProductDetail/Panasonic/ERJ-UP3J271V?qs=GedFDFLaBXEucStQ6Hh57Q%3D%3D; Supply 2 SN: 667-ERJ-UP3J271V; Supply 2 URL: https://www.digikey.com/en/products/detail/panasonic-electronic-components/ERJ-UP3J271V/12092330?s=N4IgTCBcDaIGxwOwFoCiAlAUsgqgBQGZMxEBGANRAF0BfIA; Supply 3 SN: N/A; Supply 3 URL: https://www.thegioiic.com/dien-tro-270-ohm-0603-5
footprint resistor_0603
pins: 1, 2

## 0006032741
designator R?, comment 270k
RES, 270k Ohm, size 0603, 1%; Manufacture  Name: OEM; Resistance Tolerant: +/-1%; Rated Power: 1/4W; Supply 1 Name: Mouser; Supply 1 SN: 667-ERJ-UP3F2703V; Supply 2 Name: Digi-Key; Supply 2 SN: 10-ERJ-UP3F2703VTR-ND 10-ERJ-UP3F2703VCT-ND 10-ERJ-UP3F2703VDKR-ND; Supply 3 Name: Thegioiic; Resistance: 270k; Size: 0603; Mounting Technology: SMT; Supply 1 URL: https://www.mouser.vn/ProductDetail/Panasonic/ERJ-UP3F2703V?qs=sGAEpiMZZMvdGkrng054twq3eZrCFN89fH%252BEpMTLyCa9thfbmj%252BoGg%3D%3D; Supply 2 URL: https://www.digikey.com/en/products/detail/panasonic-electronic-components/ERJ-UP3F2703V/12092823; Supply 3 SN: N/A; Supply 3 URL: N/A; Datasheet: https://api.pim.na.industrial.panasonic.com/file_stream/main/fileversion/4484; Manufacture  SN: OEM
footprint resistor_0603
pins: 1, 2

## 0006032745
designator R?, comment 270K, 1/4W
RES, 270K Ohm, size 0603, 5%; Manufacture  Name: Panasonic; Manufacture  SN: ERJ-PA3J274V; Supply 1 Name: Mouser; Supply 1 SN: 667-ERJ-PA3J274V; Supply 2 Name: Digi-Key; Supply 2 SN: P270KBZTR-ND - Tape & Reel (TR); Supply 3 Name: Thegioiic; Resistance Tolerant: +/-5%; Size: 0603; Mounting Technology: SMT; Rated Power: 1/4 W; Datasheet: https://www.mouser.vn/datasheet/2/315/AOA0000C331-1141874.pdf; Resistance: 270K; Supply 1 URL: https://www.mouser.vn/ProductDetail/Panasonic/ERJ-PA3J274V?qs=BzJM0faLVqVi3SgZ0mtcxw%3D%3D; Supply 2 URL: https://www.digikey.com/en/products/detail/panasonic-electronic-components/ERJ-PA3J274V/5036030?s=N4IgTCBcDaIGxwOwFoCiAlAUsgCgQQGZMxEAWANRAF0BfIA; Supply 3 SN: N/A; Supply 3 URL: N/A
footprint resistor_0603
pins: 1, 2

## 0006032801
designator R?, comment 28
RES, 28 Ohm, size 0603, 1%; Manufacture  Name: OEM; Resistance Tolerant: +/-1%; Rated Power: 1/4W; Supply 1 Name: Mouser; Supply 1 SN: 667-ERJ-PA3F28R0V; Supply 2 Name: Digi-Key; Supply 2 SN: 10-ERJ-UP3F28R0VTR-ND; Supply 3 Name: Thegioiic; Resistance: 28; Size: 0603; Mounting Technology: SMT; Supply 1 URL: https://www.mouser.vn/ProductDetail/Panasonic/ERJ-PA3F28R0V?qs=sGAEpiMZZMvdGkrng054t6%2FAfIpq60YD5y71hYQ1i3rQySijSHDQhg%3D%3D; Supply 2 URL: https://www.digikey.com/en/products/detail/panasonic-electronic-components/ERJ-UP3F28R0V/12092047; Supply 3 SN: N/A; Supply 3 URL: N/A; Datasheet: https://api.pim.na.industrial.panasonic.com/file_stream/main/fileversion/4484; Manufacture  SN: OEM
footprint resistor_0603
pins: 1, 2

## 0006032805
designator R?, comment 28, 1/4W
RES, 28 Ohm, size 0603, 5%; Manufacture  Name: OEM; Resistance: 28; Supply 1 Name: Mouser; Supply 2 Name: Digi-Key; Supply 3 Name: Thegioiic; Resistance Tolerant: +/-5%; Size: 0603; Mounting Technology: SMT; Rated Power: 1/4 W; Datasheet: N/A; Supply 1 SN: N/A; Supply 1 URL: N/A; Supply 2 SN: N/A; Supply 2 URL: N/A; Supply 3 SN: N/A; Supply 3 URL: N/A; Manufacture  SN: OEM
footprint resistor_0603
pins: 1, 2

## 0006032841
designator R?, comment 280k
RES, 280k Ohm, size 0603, 1%; Manufacture  Name: OEM; Resistance Tolerant: +/-1%; Rated Power: 1/4W; Supply 1 Name: Mouser; Supply 1 SN: 667-ERJ-PA3F2803V; Supply 2 Name: Digi-Key; Supply 2 SN: 10-ERJ-UP3F2803VTR-ND; Supply 3 Name: Thegioiic; Resistance: 280k; Size: 0603; Mounting Technology: SMT; Supply 1 URL: https://www.mouser.vn/ProductDetail/Panasonic/ERJ-PA3F2803V?qs=sGAEpiMZZMvdGkrng054t6%2FAfIpq60YDxqM9CyXofQR4ZT45H2b2Ww%3D%3D; Supply 2 URL: https://www.digikey.com/en/products/detail/panasonic-electronic-components/ERJ-UP3F2803V/12092419; Supply 3 SN: N/A; Supply 3 URL: N/A; Datasheet: https://api.pim.na.industrial.panasonic.com/file_stream/main/fileversion/4484; Manufacture  SN: OEM
footprint resistor_0603
pins: 1, 2

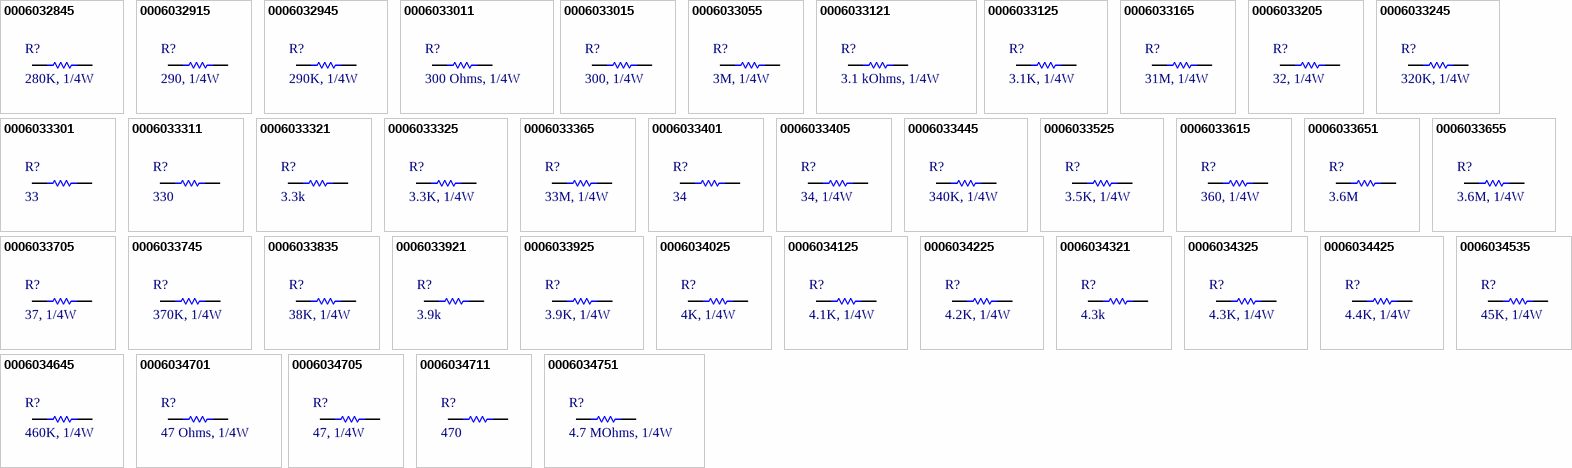
[diagram p3: symbols 0006032845 to 0006034751]

## 0006032845
designator R?, comment 280K, 1/4W
RES, 280K Ohm, size 0603, 5%; Manufacture  Name: OEM; Supply 1 Name: Mouser; Supply 2 Name: Digi-Key; Supply 3 Name: Thegioiic; Resistance Tolerant: +/-5%; Size: 0603; Mounting Technology: SMT; Rated Power: 1/4 W; Datasheet: N/A; Resistance: 280K; Supply 1 SN: N/A; Supply 1 URL: N/A; Supply 2 SN: N/A; Supply 2 URL: N/A; Supply 3 SN: N/A; Supply 3 URL: N/A; Manufacture  SN: OEM
footprint resistor_0603
pins: 1, 2

## 0006032915
designator R?, comment 290, 1/4W
RES, 290 Ohm, size 0603, 5%; Manufacture  Name: OEM; Resistance: 290; Supply 1 Name: Mouser; Supply 2 Name: Digi-Key; Supply 3 Name: Thegioiic; Resistance Tolerant: +/-5%; Size: 0603; Mounting Technology: SMT; Rated Power: 1/4 W; Datasheet: N/A; Supply 1 SN: N/A; Supply 1 URL: N/A; Supply 2 SN: N/A; Supply 2 URL: N/A; Supply 3 SN: N/A; Supply 3 URL: N/A; Manufacture  SN: OEM
footprint resistor_0603
pins: 1, 2

## 0006032945
designator R?, comment 290K, 1/4W
RES, 290K Ohm, size 0603, 5%; Manufacture  Name: OEM; Supply 1 Name: Mouser; Supply 2 Name: Digi-Key; Supply 3 Name: Thegioiic; Resistance Tolerant: +/-5%; Size: 0603; Mounting Technology: SMT; Rated Power: 1/4 W; Datasheet: N/A; Resistance: 290K; Supply 1 SN: N/A; Supply 1 URL: N/A; Supply 2 SN: N/A; Supply 2 URL: N/A; Supply 3 SN: N/A; Supply 3 URL: N/A; Manufacture  SN: OEM
footprint resistor_0603
pins: 1, 2

## 0006033011
designator R?, comment 300 Ohms, 1/4W
RES, 300 Ohms, size 0603, 1%; Manufacture  Name: OEM; Resistance: 300; Supply 1 Name: Mouser; Supply 1 SN: 755-SDR03EZPF3000; Supply 2 Name: Digi-Key; Supply 2 SN: 13-RC0603FR-10300RLTR-ND; Supply 3 Name: Thegioiic; Resistance Tolerant: +/-1%; Size: 0603; Mounting Technology: SMT; Rated Power: 1/4 W; Datasheet: N/A; Supply 1 URL: https://www.mouser.vn/ProductDetail/ROHM-Semiconductor/SDR03EZPF3000?qs=MyNHzdoqoQKYsGXohuNk8Q%3D%3D; Supply 2 URL: https://www.digikey.com/en/products/detail/yageo/RC0603FR-10300RL/14008461; Supply 3 SN: N/A; Supply 3 URL: N/A; Manufacture  SN: OEM
footprint resistor_0603
pins: 1, 2

## 0006033015
designator R?, comment 300, 1/4W
RES, 300 Ohm, size 0603, 5%; Manufacture  Name: Panasonic; Manufacture  SN: ERJ-UP3J301V; Resistance: 300; Supply 1 Name: Mouser; Supply 1 SN: 667-ERJ-UP3J301V; Supply 2 Name: Digi-Key; Supply 2 SN: 10-ERJ-UP3J301VTR-ND - Tape & Reel (TR); Supply 3 Name: Thegioiic; Resistance Tolerant: +/-5%; Size: 0603; Mounting Technology: SMT; Rated Power: 1/4 W; Datasheet: https://www.mouser.vn/datasheet/2/315/Panasonic_Resistors_Thick_Film_Anti_Sulf_Anti_Surg-1825099.pdf; Supply 1 URL: https://www.mouser.vn/ProductDetail/Panasonic/ERJ-UP3J301V?qs=GedFDFLaBXHbZaTTwHvSvA%3D%3D; Supply 2 URL: https://www.digikey.com/en/products/detail/panasonic-electronic-components/ERJ-UP3J301V/12093121?s=N4IgTCBcDaIGxwOwFoCiAlAUsgqgBQGZMCAGARgDUQBdAXyA; Supply 3 SN: N/A; Supply 3 URL: N/A
footprint resistor_0603
pins: 1, 2

## 0006033055
designator R?, comment 3M, 1/4W
RES, 3M Ohm, size 0603, 5%; Manufacture  Name: ROHM Semicondutor; Manufacture  SN: ESR03EZPJ305; Supply 1 Name: Mouser; Supply 1 SN: 755-ESR03EZPJ305; Supply 2 Name: Digi-Key; Supply 2 SN: RHM3MDTR-ND - Tape & Reel (TR); Supply 3 Name: Thegioiic; Resistance Tolerant: +/-5%; Size: 0603; Mounting Technology: SMT; Rated Power: 1/4 W; Datasheet: https://www.mouser.vn/datasheet/2/348/ROHM_S_A0011075102_1-2563252.pdf; Resistance: 3M; Supply 1 URL: https://www.mouser.vn/ProductDetail/ROHM-Semiconductor/ESR03EZPJ305?qs=493kPxzlxfLrDGxSq1%2FUyw%3D%3D; Supply 2 URL: https://www.digikey.com/en/products/detail/rohm-semiconductor/ESR03EZPJ305/4051238?s=N4IgTCBcDaIOwFYEFoCiBlASgBgMyoC0AFAKV2wRAF0BfIA; Supply 3 SN: N/A; Supply 3 URL: N/A
footprint resistor_0603
pins: 1, 2

## 0006033121
designator R?, comment 3.1 kOhms, 1/4W
RES, 3.1 kOhms, size 0603, 1%; Manufacture  Name: OEM; Resistance: 3.1 k; Supply 1 Name: Mouser; Supply 1 SN: 652-CHP0603FX3011ELF; Supply 2 Name: Digi-Key; Supply 2 SN: MCT06030C3101FP500-ND; Supply 3 Name: Thegioiic; Resistance Tolerant: +/-1%; Size: 0603; Mounting Technology: SMT; Rated Power: 1/4 W; Datasheet: N/A; Supply 1 URL: https://www.mouser.vn/ProductDetail/Bourns/CHP0603-FX-3011ELF?qs=gZXFycFWdAOzN1n7XWkwdg%3D%3D; Supply 2 URL: https://www.digikey.com/en/products/detail/vishay-beyschlag-draloric-bc-components/MCT06030C3101FP500/8124767; Supply 3 SN: N/A; Supply 3 URL: N/A; Manufacture  SN: OEM
footprint resistor_0603
pins: 1, 2

## 0006033125
designator R?, comment 3.1K, 1/4W
RES, 3.1K Ohm, size 0603, 5%; Manufacture  Name: OEM; Supply 1 Name: Mouser; Supply 2 Name: Digi-Key; Supply 3 Name: Thegioiic; Resistance Tolerant: +/-5%; Size: 0603; Mounting Technology: SMT; Rated Power: 1/4 W; Datasheet: N/A; Resistance: 3.1K; Supply 1 SN: N/A; Supply 1 URL: N/A; Supply 2 SN: N/A; Supply 2 URL: N/A; Supply 3 SN: N/A; Supply 3 URL: N/A; Manufacture  SN: OEM
footprint resistor_0603
pins: 1, 2

## 0006033165
designator R?, comment 31M, 1/4W
RES, 31M Ohm, size 0603, 5%; Manufacture  Name: OEM; Supply 1 Name: Mouser; Supply 2 Name: Digi-Key; Supply 3 Name: Thegioiic; Resistance Tolerant: +/-5%; Size: 0603; Mounting Technology: SMT; Rated Power: 1/4 W; Datasheet: N/A; Resistance: 31M; Supply 1 SN: N/A; Supply 1 URL: N/A; Supply 2 SN: N/A; Supply 2 URL: N/A; Supply 3 SN: N/A; Supply 3 URL: N/A; Manufacture  SN: OEM
footprint resistor_0603
pins: 1, 2

## 0006033205
designator R?, comment 32, 1/4W
RES, 32 Ohm, size 0603, 5%; Manufacture  Name: OEM; Resistance: 32; Supply 1 Name: Mouser; Supply 2 Name: Digi-Key; Supply 3 Name: Thegioiic; Resistance Tolerant: +/-5%; Size: 0603; Mounting Technology: SMT; Rated Power: 1/4 W; Datasheet: N/A; Supply 1 SN: N/A; Supply 1 URL: N/A; Supply 2 SN: N/A; Supply 2 URL: N/A; Supply 3 SN: N/A; Supply 3 URL: N/A; Manufacture  SN: OEM
footprint resistor_0603
pins: 1, 2

## 0006033245
designator R?, comment 320K, 1/4W
RES, 320K Ohm, size 0603, 5%; Manufacture  Name: OEM; Supply 1 Name: Mouser; Supply 2 Name: Digi-Key; Supply 3 Name: Thegioiic; Resistance Tolerant: +/-5%; Size: 0603; Mounting Technology: SMT; Rated Power: 1/4 W; Datasheet: N/A; Resistance: 320K; Supply 1 SN: N/A; Supply 1 URL: N/A; Supply 2 SN: N/A; Supply 2 URL: N/A; Supply 3 SN: N/A; Supply 3 URL: N/A; Manufacture  SN: OEM
footprint resistor_0603
pins: 1, 2

## 0006033301
designator R?, comment 33
RES, 33 Ohm, size 0603, 1%; Manufacture  Name: OEM; Resistance Tolerant: +/-1%; Rated Power: 1/4W; Supply 1 Name: Mouser; Supply 1 SN: 667-ERJ-UP3F33R0V; Supply 2 Name: Digi-Key; Supply 2 SN: 10-ERJ-UP3F33R0VTR-ND 10-ERJ-UP3F33R0VCT-ND 10-ERJ-UP3F33R0VDKR-ND; Supply 3 Name: Thegioiic; Resistance: 33; Size: 0603; Mounting Technology: SMT; Supply 1 URL: https://www.mouser.vn/ProductDetail/Panasonic/ERJ-UP3F33R0V?qs=sGAEpiMZZMvdGkrng054twq3eZrCFN89SIaxCOiI%2FLhwYCTxSQzpaA%3D%3D; Supply 2 URL: https://www.digikey.com/en/products/detail/panasonic-electronic-components/ERJ-UP3F33R0V/12092441; Supply 3 SN: N/A; Supply 3 URL: N/A; Datasheet: https://api.pim.na.industrial.panasonic.com/file_stream/main/fileversion/4484; Manufacture  SN: OEM
footprint resistor_0603
pins: 1, 2

## 0006033311
designator R?, comment 330
RES, 330 Ohm, size 0603, 1%; Manufacture  Name: OEM; Resistance Tolerant: +/-1%; Rated Power: 1/4W; Supply 1 Name: Mouser; Supply 1 SN: 667-ERJ-UP3F3300V; Supply 2 Name: Digi-Key; Supply 2 SN: 10-ERJ-UP3F3300VTR-ND 10-ERJ-UP3F3300VCT-ND 10-ERJ-UP3F3300VDKR-ND; Supply 3 Name: Thegioiic; Resistance: 330; Size: 0603; Mounting Technology: SMT; Supply 1 URL: https://www.mouser.vn/ProductDetail/Panasonic/ERJ-UP3F3300V?qs=sGAEpiMZZMvdGkrng054twq3eZrCFN89MDZusw5Tf7mZnfRSpxxqIA%3D%3D; Supply 2 URL: https://www.digikey.com/en/products/detail/panasonic-electronic-components/ERJ-UP3F3300V/12093106; Supply 3 SN: N/A; Supply 3 URL: N/A; Datasheet: https://api.pim.na.industrial.panasonic.com/file_stream/main/fileversion/4484; Manufacture  SN: OEM
footprint resistor_0603
pins: 1, 2

## 0006033321
designator R?, comment 3.3k
RES, 3.3k Ohm, size 0603, 1%; Manufacture  Name: OEM; Resistance Tolerant: +/-1%; Rated Power: 1/4W; Supply 1 Name: Mouser; Supply 1 SN: 667-ERJ-PA3F3301V; Supply 2 Name: Digi-Key; Supply 2 SN: 10-ERJ-UP3F3301VTR-ND 10-ERJ-UP3F3301VCT-ND 10-ERJ-UP3F3301VDKR-ND; Supply 3 Name: Thegioiic; Resistance: 3.3k; Size: 0603; Mounting Technology: SMT; Supply 1 URL: https://www.mouser.vn/ProductDetail/Panasonic/ERJ-PA3F3301V?qs=sGAEpiMZZMvdGkrng054t6%2FAfIpq60YDpB2wwO%252BBqIBQy72ynM%2FI9Q%3D%3D; Supply 2 URL: https://www.digikey.com/en/products/detail/panasonic-electronic-components/ERJ-UP3F3301V/12093093; Supply 3 SN: N/A; Supply 3 URL: N/A; Datasheet: https://api.pim.na.industrial.panasonic.com/file_stream/main/fileversion/4484; Manufacture  SN: OEM
footprint resistor_0603
pins: 1, 2

## 0006033325
designator R?, comment 3.3K, 1/4W
RES, 3.3K Ohm, size 0603, 5%; Manufacture  Name: Panasonic; Manufacture  SN: ERJ-UP3J332V; Supply 1 Name: Mouser; Supply 1 SN: 667-ERJ-UP3J332V; Supply 2 Name: Digi-Key; Supply 2 SN: 10-ERJ-UP3J332VTR-ND - Tape & Reel (TR); Supply 3 Name: Thegioiic; Resistance Tolerant: +/-5%; Size: 0603; Mounting Technology: SMT; Rated Power: 1/4 W; Datasheet: https://www.mouser.vn/datasheet/2/315/Panasonic_Resistors_Thick_Film_Anti_Sulf_Anti_Surg-1825099.pdf; Resistance: 3.3K; Supply 1 URL: https://www.mouser.vn/ProductDetail/Panasonic/ERJ-UP3J332V?qs=GedFDFLaBXFgKQrmrDNO%252Bg%3D%3D; Supply 2 URL: https://www.digikey.com/en/products/detail/panasonic-electronic-components/ERJ-UP3J332V/12092604?s=N4IgTCBcDaIGxwOwFoCiAlAUsgqgBQGZMCCwA1EAXQF8g; Supply 3 SN: N/A; Supply 3 URL: N/A
footprint resistor_0603
pins: 1, 2

## 0006033365
designator R?, comment 33M, 1/4W
RES, 33M Ohm, size 0603, 5%; Manufacture  Name: OEM; Supply 1 Name: Mouser; Supply 2 Name: Digi-Key; Supply 3 Name: Thegioiic; Resistance Tolerant: +/-5%; Size: 0603; Mounting Technology: SMT; Rated Power: 1/4 W; Datasheet: N/A; Resistance: 33M; Supply 1 SN: N/A; Supply 1 URL: N/A; Supply 2 SN: N/A; Supply 2 URL: N/A; Supply 3 SN: N/A; Supply 3 URL: N/A; Manufacture  SN: OEM
footprint resistor_0603
pins: 1, 2

## 0006033401
designator R?, comment 34
RES, 34 Ohm, size 0603, 1%; Manufacture  Name: OEM; Resistance Tolerant: +/-1%; Rated Power: 1/4W; Supply 1 Name: Mouser; Supply 1 SN: 667-ERJ-PA3F34R0V; Supply 2 Name: Digi-Key; Supply 2 SN: 10-ERJ-UP3F34R0VTR-ND; Supply 3 Name: Thegioiic; Resistance: 34; Size: 0603; Mounting Technology: SMT; Supply 1 URL: https://www.mouser.vn/ProductDetail/Panasonic/ERJ-PA3F34R0V?qs=sGAEpiMZZMvdGkrng054t6%2FAfIpq60YDFpgNmxonQxDNwfArcaAbgA%3D%3D; Supply 2 URL: https://www.digikey.com/en/products/detail/panasonic-electronic-components/ERJ-UP3F34R0V/12092872; Supply 3 SN: N/A; Supply 3 URL: N/A; Datasheet: https://api.pim.na.industrial.panasonic.com/file_stream/main/fileversion/4484; Manufacture  SN: OEM
footprint resistor_0603
pins: 1, 2

## 0006033405
designator R?, comment 34, 1/4W
RES, 34 Ohm, size 0603, 5%; Manufacture  Name: OEM; Resistance: 34; Supply 1 Name: Mouser; Supply 2 Name: Digi-Key; Supply 3 Name: Thegioiic; Resistance Tolerant: +/-5%; Size: 0603; Mounting Technology: SMT; Rated Power: 1/4 W; Datasheet: N/A; Supply 1 SN: N/A; Supply 1 URL: N/A; Supply 2 SN: N/A; Supply 2 URL: N/A; Supply 3 SN: N/A; Supply 3 URL: N/A; Manufacture  SN: OEM
footprint resistor_0603
pins: 1, 2

## 0006033445
designator R?, comment 340K, 1/4W
RES, 340K Ohm, size 0603, 5%; Manufacture  Name: OEM; Supply 1 Name: Mouser; Supply 2 Name: Digi-Key; Supply 3 Name: Thegioiic; Resistance Tolerant: +/-5%; Size: 0603; Mounting Technology: SMT; Rated Power: 1/4 W; Datasheet: N/A; Resistance: 340K; Supply 1 SN: N/A; Supply 1 URL: N/A; Supply 2 SN: N/A; Supply 2 URL: N/A; Supply 3 SN: N/A; Supply 3 URL: N/A; Manufacture  SN: OEM
footprint resistor_0603
pins: 1, 2

## 0006033525
designator R?, comment 3.5K, 1/4W
RES, 3.5K Ohm, size 0603, 5%; Manufacture  Name: OEM; Supply 1 Name: Mouser; Supply 2 Name: Digi-Key; Supply 3 Name: Thegioiic; Resistance Tolerant: +/-5%; Size: 0603; Mounting Technology: SMT; Rated Power: 1/4 W; Datasheet: N/A; Resistance: 3.5K; Supply 1 SN: N/A; Supply 1 URL: N/A; Supply 2 SN: N/A; Supply 2 URL: N/A; Supply 3 SN: N/A; Supply 3 URL: N/A; Manufacture  SN: OEM
footprint resistor_0603
pins: 1, 2